# Altium schematic symbol library SCH_Lib.SchLib: 198 symbols
Pins are listed as number, name and electrical type; pins without a type are passive.

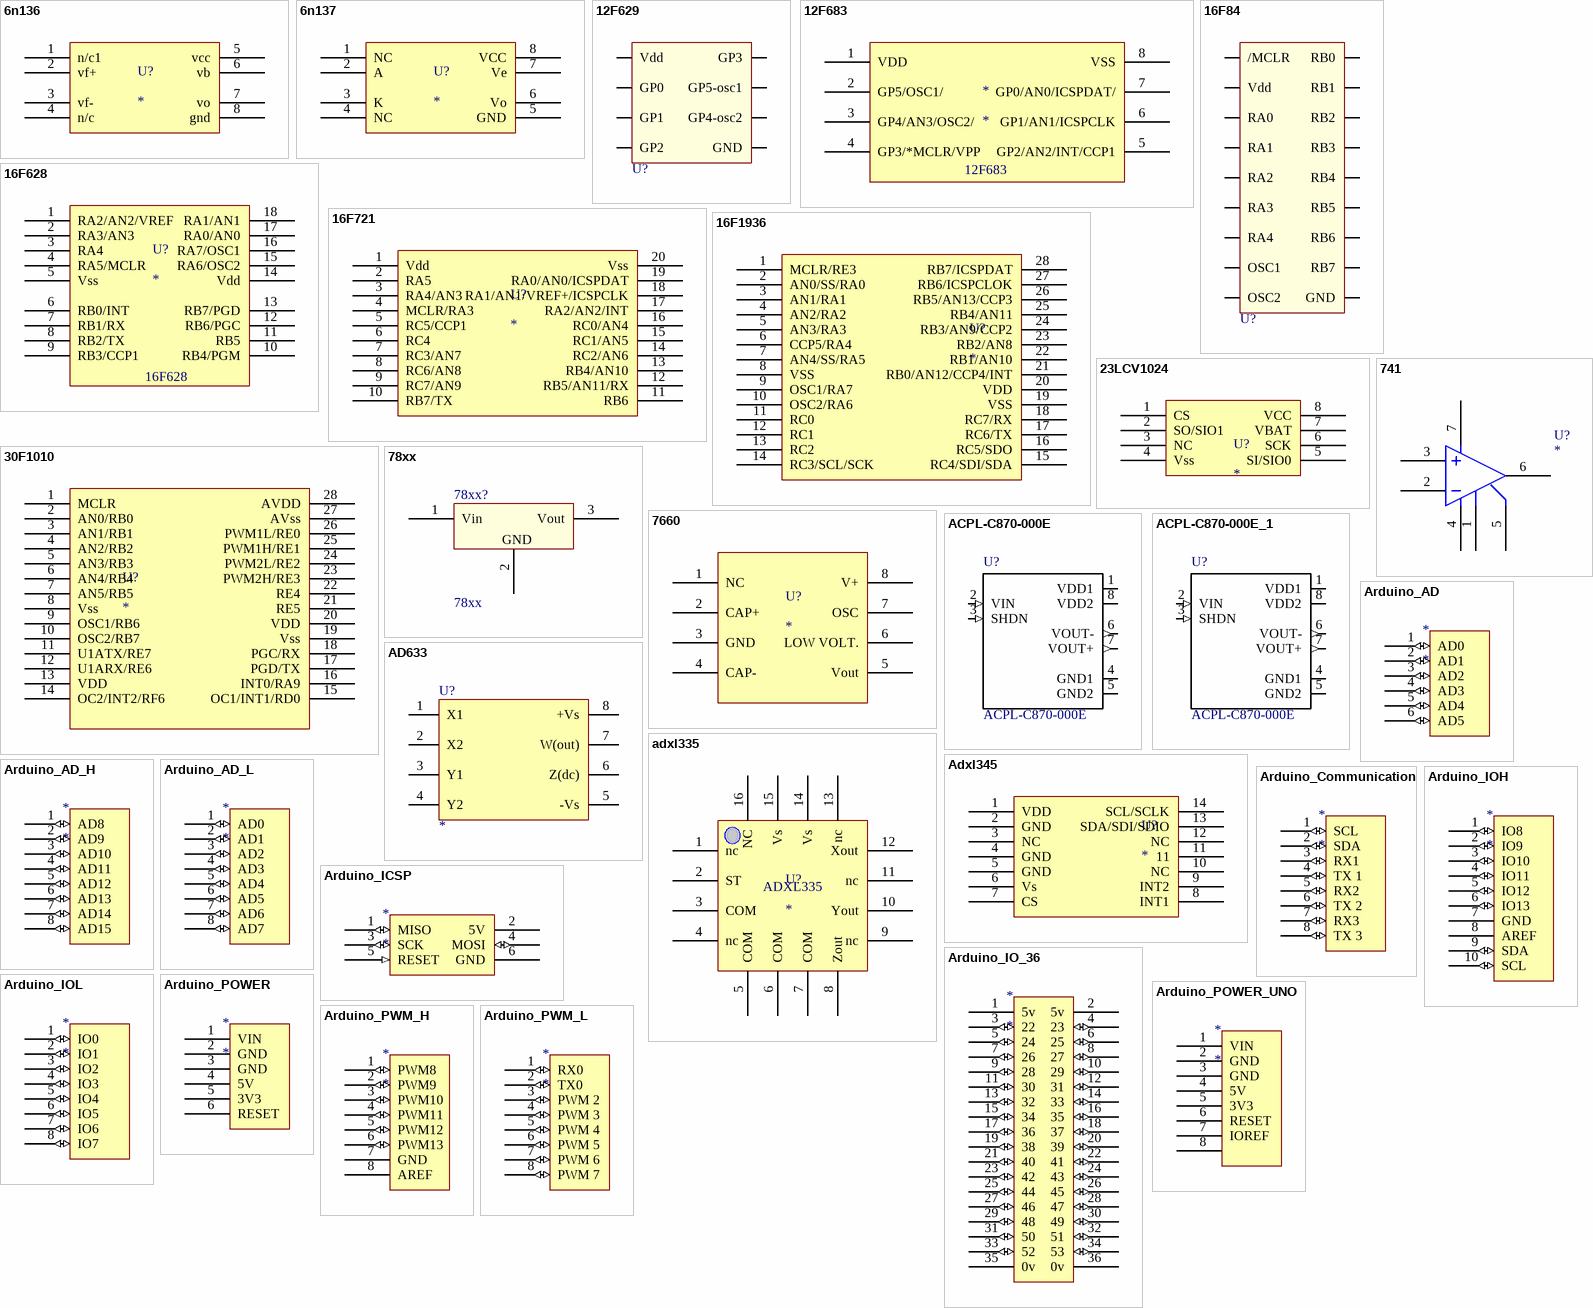
[diagram p0: symbols 6n136 to Arduino_PWM_L]

## 6n136
designator U?
footprint DIP8
pins: 1 n/c1, 2 vf+, 3 vf-, 4 n/c, 5 vcc, 6 vb, 7 vo, 8 gnd

## 6n137
designator U?
footprint DIP8
pins: 1 NC, 2 A, 3 K, 4 NC, 5 GND, 6 Vo, 7 Ve, 8 VCC

## 12F629
designator U?, comment Pic pequeño  (value not drawn)
footprint DIP8 (CI 8)
pins: 1 Vdd, 2 GP5-osc1, 3 GP4-osc2, 4 GP3, 5 GP2, 6 GP1, 7 GP0, 8 GND

## 12F683
designator *
footprint SOP8
footprint PIC12F683_SMD
pins: 1 VDD, 2 GP5/OSC1/, 3 GP4/AN3/OSC2/, 4 GP3/*MCLR/VPP, 5 GP2/AN2/INT/CCP1, 6 GP1/AN1/ICSPCLK, 7 GP0/AN0/ICSPDAT/, 8 VSS

## 16F84
designator U?  (value not drawn)
footprint DIP18 (circioto integrado 18 pates)
pins: 1 RA2, 2 RA3, 3 RA4, 4 /MCLR, 5 GND, 6 RB0, 7 RB1, 8 RB2, 9 RB3, 10 RB4, 11 RB5, 12 RB6, 13 RB7, 14 Vdd, 15 OSC2, 16 OSC1, 17 RA0, 18 RA1

## 16F628
designator U?
footprint 16f628
pins: 1 RA2/AN2/VREF, 2 RA3/AN3, 3 RA4, 4 RA5/MCLR, 5 Vss, 6 RB0/INT, 7 RB1/RX, 8 RB2/TX, 9 RB3/CCP1, 10 RB4/PGM, 11 RB5, 12 RB6/PGC, 13 RB7/PGD, 14 Vdd, 15 RA6/OSC2, 16 RA7/OSC1, 17 RA0/AN0, 18 RA1/AN1

## 16F721
designator U?
footprint SOIC20
pins: 1 Vdd, 2 RA5, 3 RA4/AN3, 4 MCLR/RA3, 5 RC5/CCP1, 6 RC4, 7 RC3/AN7, 8 RC6/AN8, 9 RC7/AN9, 10 RB7/TX, 11 RB6, 12 RB5/AN11/RX, 13 RB4/AN10, 14 RC2/AN6, 15 RC1/AN5, 16 RC0/AN4, 17 RA2/AN2/INT, 18 RA1/AN1/VREF+/ICSPCLK, 19 RA0/AN0/ICSPDAT, 20 Vss

## 16F1936
designator U?
footprint 16F1936_SS
pins: 1 MCLR/RE3, 2 AN0/SS/RA0, 3 AN1/RA1, 4 AN2/RA2, 5 AN3/RA3, 6 CCP5/RA4, 7 AN4/SS/RA5, 8 VSS, 9 OSC1/RA7, 10 OSC2/RA6, 11 RC0, 12 RC1, 13 RC2, 14 RC3/SCL/SCK, 15 RC4/SDI/SDA, 16 RC5/SDO, 17 RC6/TX, 18 RC7/RX, 19 VSS, 20 VDD, 21 RB0/AN12/CCP4/INT, 22 RB1/AN10, 23 RB2/AN8, 24 RB3/AN9/CCP2, 25 RB4/AN11, 26 RB5/AN13/CCP3, 27 RB6/ICSPCLOK, 28 RB7/ICSPDAT

## 23LCV1024
designator U?
footprint 23LCV1024_SS
pins: 1 CS, 2 SO/SIO1, 3 NC, 4 Vss, 5 SI/SIO0, 6 SCK, 7 VBAT, 8 VCC

## 30F1010
designator U?
footprint SMD-DIP28 - ANCHO
pins: 1 MCLR, 2 AN0/RB0, 3 AN1/RB1, 4 AN2/RB2, 5 AN3/RB3, 6 AN4/RB4, 7 AN5/RB5, 8 Vss, 9 OSC1/RB6, 10 OSC2/RB7, 11 U1ATX/RE7, 12 U1ARX/RE6, 13 VDD, 14 OC2/INT2/RF6, 15 OC1/INT1/RD0, 16 INT0/RA9, 17 PGD/TX, 18 PGC/RX, 19 Vss, 20 VDD, 21 RE5, 22 RE4, 23 PWM2H/RE3, 24 PWM2L/RE2, 25 PWM1H/RE1, 26 PWM1L/RE0, 27 AVss, 28 AVDD

## 78xx
designator 78xx?
Regulador Tensión Serie
footprint D2PAK (TO220-superficie)
footprint To220
pins: 1 Vin, 2 GND, 3 Vout

## 741
designator U?
AMPLIFICADOR OPERACIONAL
footprint DIP8
pins: 1, 2, 3, 4, 5, 6, 7

## 7660
designator U?
footprint 7660
pins: 1 NC, 2 CAP+, 3 GND, 4 CAP-, 5 Vout, 6 LOW VOLT., 7 OSC, 8 V+

## ACPL-C870-000E
designator U?
Isolation Amplifier [Broadcom] ACPL-C870-000E Isolation Amplifier; MF: Broadcom Limited; Package: SO-8 Broadcom; Digi-Key_Part_Number: 516-2578-5-ND; MP: ACPL-C870-000E; Digi-Key_Purchase_URL: https://www.digikey.dk/product-detail/en/broadcom-limited/ACPL-C870-000E/516-2578-5-ND/3523705?utm_source=snapeda&utm_medium=aggregator&utm_campaign=symbol; SnapEDA_Link: https://www.snapeda.com/parts/ACPL-C870-000E/Broadcom%20Limited/view-part/?ref=snap; Value: *
footprint SOIC127P1150X360-8N
pins: 1 VDD1 (power), 2 VIN (in), 3 SHDN (in), 4 GND1 (power), 5 GND2 (power), 6 VOUT- (out), 7 VOUT+ (out), 8 VDD2 (power)

## ACPL-C870-000E_1
designator U?, comment ACPL-C870-000E
Isolation Amplifier [Broadcom] ACPL-C870-000E Isolation Amplifier; MF: Broadcom Limited; Package: SO-8 Broadcom; Digi-Key_Part_Number: 516-2578-5-ND; MP: ACPL-C870-000E; Digi-Key_Purchase_URL: https://www.digikey.dk/product-detail/en/broadcom-limited/ACPL-C870-000E/516-2578-5-ND/3523705?utm_source=snapeda&utm_medium=aggregator&utm_campaign=symbol; SnapEDA_Link: https://www.snapeda.com/parts/ACPL-C870-000E/Broadcom%20Limited/view-part/?ref=snap; Value: *
footprint SOIC127P1150X360-8N
footprint SSOIC6 (Circuito de 6 patas SMD)
pins: 1 VDD1 (power), 2 VIN (in), 3 SHDN (in), 4 GND1 (power), 5 GND2 (power), 6 VOUT- (out), 7 VOUT+ (out), 8 VDD2 (power)

## AD633
designator U?
Multiplicador de cuatro cuadrantes
footprint DIP8
pins: 1 X1, 2 X2, 3 Y1, 4 Y2, 5 -Vs, 6 Z(dc), 7 W(out), 8 +Vs

## adxl335
designator U?
footprint ADXL335
pins: 1 nc, 2 ST, 3 COM, 4 nc, 5 COM, 6 COM, 7 COM, 8 Zout, 9 nc, 10 Yout, 11 nc, 12 Xout, 13 nc, 14 Vs, 15 Vs, 16 NC
text: ADXL335

## Adxl345
designator U?
Acelerometro digital low power
footprint 14LGA (ADXL345)
pins: 1 VDD, 2 GND, 3 NC, 4 GND, 5 GND, 6 Vs, 7 CS, 8 INT1, 9 INT2, 10 NC, 11, 12 NC, 13 SDA/SDI/SDIO, 14 SCL/SCLK

## Arduino_AD
designator *
footprint Header 6x1 8.5mm (Stackable 6 pin header)
pins: 1 AD0 (io), 2 AD1 (io), 3 AD2 (io), 4 AD3 (io), 5 AD4 (io), 6 AD5 (io)

## Arduino_AD_H
designator *
footprint Header 8x1 8.5mm (Stackable 8 pin header)
pins: 1 AD8 (io), 2 AD9 (io), 3 AD10 (io), 4 AD11 (io), 5 AD12 (io), 6 AD13 (io), 7 AD14 (io), 8 AD15 (io)

## Arduino_AD_L
designator *
footprint Header 8x1 8.5mm (Stackable 8 pin header)
pins: 1 AD0 (io), 2 AD1 (io), 3 AD2 (io), 4 AD3 (io), 5 AD4 (io), 6 AD5 (io), 7 AD6 (io), 8 AD7 (io)

## Arduino_Communication
designator *
footprint Header 8x1 8.5mm (Stackable 8 pin header)
pins: 1 SCL (io), 2 SDA (io), 3 RX1 (io), 4 TX 1 (io), 5 RX2 (io), 6 TX 2 (io), 7 RX3 (io), 8 TX 3 (io)

## Arduino_ICSP
designator *
footprint ICSP
pins: 1 MISO (io), 2 5V (power), 3 SCK (io), 4 MOSI (io), 5 RESET (in), 6 GND (power)

## Arduino_IO_36
designator *
footprint HEADER 36X 8MM (Stackable 10 pin header)
pins: 1 5v (power), 2 5v (power), 3 22 (io) "Digital 22", 4 23 (io) "Digital 23", 5 24 (io) "Digital 24", 6 25 (io) "Digital 25", 7 26 (io) "Digital 26", 8 27 (io) "Digital 27", 9 28 (io) "Digital 28", 10 29 (io) "Digital 29", 11 30 (io) "Digital 30", 12 31 (io) "Digital 31", 13 32 (io) "Digital 32", 14 33 (io) "Digital 33", 15 34 (io) "Digital 34", 16 35 (io) "Digital 35", 17 36 (io) "Digital 36", 18 37 (io) "Digital 37", 19 38 (io) "Digital 38", 20 39 (io) "Digital 39", 21 40 (io) "Digital 40", 22 41 (io) "Digital 41", 23 42 (io) "Digital 42", 24 43 (io) "Digital 43", 25 44 (io) "Digital 44", 26 45 (io) "Digital 45", 27 46 (io) "Digital 46", 28 47 (io) "Digital 47", 29 48 (io) "Digital 48", 30 49 (io) "Digital 49", 31 50 (io) "Digital 50", 32 51 (io) "Digital 51", 33 52 (io) "Digital 52", 34 53 (io) "Digital 53", 35 0v (power), 36 0v (power)

## Arduino_IOH
designator *
footprint Header 10x1 8.5mm (Stackable 10 pin header)
pins: 1 IO8 (io), 2 IO9 (io), 3 IO10 (io), 4 IO11 (io), 5 IO12 (io), 6 IO13 (io), 7 GND (power), 8 AREF, 9 SDA (io), 10 SCL (io)

## Arduino_IOL
designator *
footprint Header 8x1 8.5mm (Stackable 8 pin header)
pins: 1 IO0 (io), 2 IO1 (io), 3 IO2 (io), 4 IO3 (io), 5 IO4 (io), 6 IO5 (io), 7 IO6 (io), 8 IO7 (io)

## Arduino_POWER
designator *
footprint Header 6x1 8.5mm (Stackable 6 pin header)
pins: 1 VIN (power), 2 GND (power), 3 GND (power), 4 5V (power), 5 3V3 (power), 6 RESET

## Arduino_POWER_UNO
designator *
footprint Header 8x1 8.5mm (Stackable 8 pin header)
pins: 1 VIN (power), 2 GND (power), 3 GND (power), 4 5V (power), 5 3V3 (power), 6 RESET, 7 IOREF (power), 8

## Arduino_PWM_H
designator *
footprint Header 8x1 8.5mm (Stackable 8 pin header)
pins: 1 PWM8 (io) "PWM 8", 2 PWM9 (io) "PWM 9", 3 PWM10 (io) "PWM 10", 4 PWM11 (io) "PWM 11", 5 PWM12 (io) "PWM 12", 6 PWM13 (io) "PWM 13", 7 GND (power), 8 AREF

## Arduino_PWM_L
designator *
footprint Header 8x1 8.5mm (Stackable 8 pin header)
pins: 1 RX0 (io) "PWM 0 & RX0", 2 TX0 (io) "PWM 1 & TX0", 3 PWM 2 (io), 4 PWM 3 (io), 5 PWM 4 (io), 6 PWM 5 (io), 7 PWM 6 (io), 8 PWM 7 (io)

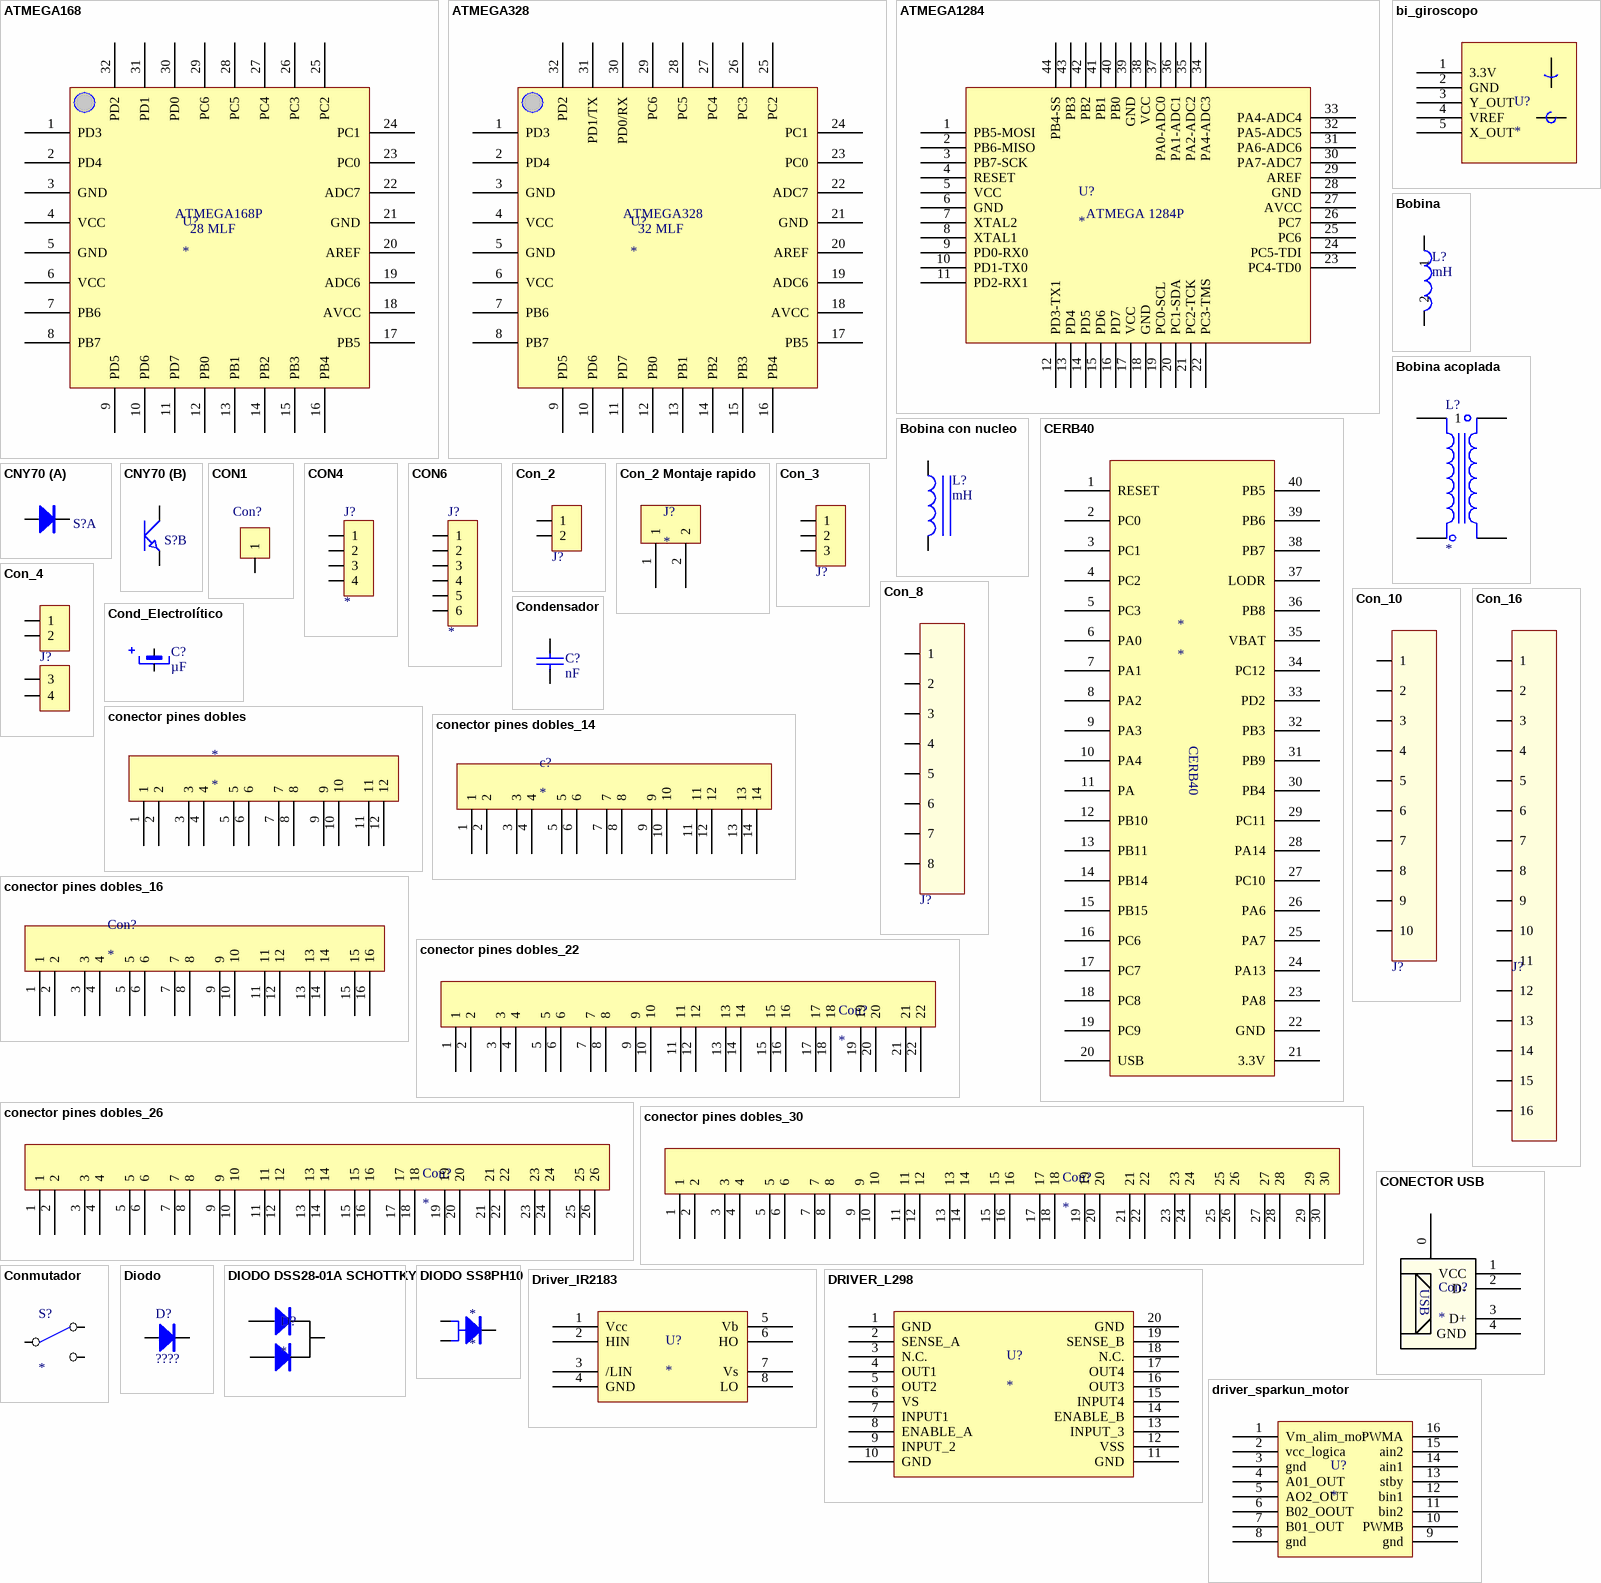
[diagram p1: symbols ATMEGA168 to driver_sparkun_motor]

## ATMEGA168
designator U?
footprint 32A_M (32-Pin Thin Quad Flat Pack 0.8 mm Pitch, IPC Low Density)
pins: 1 PD3, 2 PD4, 3 GND, 4 VCC, 5 GND, 6 VCC, 7 PB6, 8 PB7, 9 PD5, 10 PD6, 11 PD7, 12 PB0, 13 PB1, 14 PB2, 15 PB3, 16 PB4, 17 PB5, 18 AVCC, 19 ADC6, 20 AREF, 21 GND, 22 ADC7, 23 PC0, 24 PC1, 25 PC2, 26 PC3, 27 PC4, 28 PC5, 29 PC6, 30 PD0, 31 PD1, 32 PD2
text: ATMEGA168P; 28 MLF

## ATMEGA328
designator U?
footprint 32A_M (32-Pin Thin Quad Flat Pack 0.8 mm Pitch, IPC Low Density)
pins: 1 PD3, 2 PD4, 3 GND, 4 VCC, 5 GND, 6 VCC, 7 PB6, 8 PB7, 9 PD5, 10 PD6, 11 PD7, 12 PB0, 13 PB1, 14 PB2, 15 PB3, 16 PB4, 17 PB5, 18 AVCC, 19 ADC6, 20 AREF, 21 GND, 22 ADC7, 23 PC0, 24 PC1, 25 PC2, 26 PC3, 27 PC4, 28 PC5, 29 PC6, 30 PD0/RX, 31 PD1/TX, 32 PD2
text: 32 MLF

## ATMEGA1284
designator U?
footprint TQFP 44
pins: 1 PB5-MOSI, 2 PB6-MISO, 3 PB7-SCK, 4 RESET, 5 VCC, 6 GND, 7 XTAL2, 8 XTAL1, 9 PD0-RX0, 10 PD1-TX0, 11 PD2-RX1, 12 PD3-TX1, 13 PD4, 14 PD5, 15 PD6, 16 PD7, 17 VCC, 18 GND, 19 PC0-SCL, 20 PC1-SDA, 21 PC2-TCK, 22 PC3-TMS, 23 PC4-TD0, 24 PC5-TDI, 25 PC6, 26 PC7, 27 AVCC, 28 GND, 29 AREF, 30 PA7-ADC7, 31 PA6-ADC6, 32 PA5-ADC5, 33 PA4-ADC4, 34 PA4-ADC3, 35 PA2-ADC2, 36 PA1-ADC1, 37 PA0-ADC0, 38 VCC, 39 GND, 40 PB0, 41 PB1, 42 PB2, 43 PB3, 44 PB4-SS
text: ATMEGA 1284P

## bi_giroscopo
designator U?
footprint bi_giroscopo
pins: 1 3.3V, 2 GND, 3 Y_OUT, 4 VREF, 5 X_OUT

## Bobina
designator L?, comment mH
footprint Bobina (154C)
footprint E20-Seebeck
pins: 1, 2

## Bobina acoplada
designator L?
footprint E30 - Acoplado
footprint ETD29- Acoplado
footprint E20- ACOPLADA
footprint ETD44 - ETD29
pins: 1, 2, 3, 4

## Bobina con nucleo
designator L?, comment mH
footprint Bobina_E20
footprint BOBINA E25/20
pins: 1, 10

## CERB40
designator *
footprint DIP40
pins: 1 RESET, 2 PC0, 3 PC1, 4 PC2, 5 PC3, 6 PA0, 7 PA1, 8 PA2, 9 PA3, 10 PA4, 11 PA, 12 PB10, 13 PB11, 14 PB14, 15 PB15, 16 PC6, 17 PC7, 18 PC8, 19 PC9, 20 USB, 21 3.3V, 22 GND, 23 PA8, 24 PA13, 25 PA7, 26 PA6, 27 PC10, 28 PA14, 29 PC11, 30 PB4, 31 PB9, 32 PB3, 33 PD2, 34 PC12, 35 VBAT, 36 PB8, 37 LODR, 38 PB7, 39 PB6, 40 PB5

## CNY70
designator S?  (value not drawn)
footprint CNY70 (sensor negro)
part A pins: 1 A, 2 K
part B pins: 3 E, 4 C

## CON1
designator Con?  (value not drawn)
footprint Con_1_Via
pins: 1

## CON4
designator J?
CON4
footprint REG4
footprint Clema_4:100milis
pins: 1, 2, 3, 4

## CON6
designator J?
CONECTOR 6 PINES
footprint Clema_6_vias
footprint Clema_6_100milis
pins: 1, 2, 3, 4, 5, 6

## Con_2
designator J?, comment Cleva 2 vias  (value not drawn)
footprint Clema_2_vias (Conector 2 vias)
footprint Clema_2_vias_chico
pins: 1, 2

## Con_2 Montaje rapido
designator J?
footprint CON_2_Montaje Rapido
pins: 1, 2

## Con_3
designator J?, comment Cleva 2 vias  (value not drawn)
footprint Clema_3_Vias_chico
footprint Clema_3_vias (Conector 3 vias)
footprint con_3_100milis
footprint Con_pot_3pin
pins: 1, 2, 3

## Con_4
designator J?, comment Cleva 2 vias  (value not drawn)
footprint Clema_4_vias_cuadrado (Conector 2 vias)
footprint Clema_2_vias_chico
pins: 1, 2, 3, 4

## Con_8
designator J?  (value not drawn)
Clema 8 vias
footprint Clema_8_vias (Conector 8 vias)
pins: 1, 2, 3, 4, 5, 6, 7, 8

## Con_10
designator J?  (value not drawn)
footprint Clema_10_vias
pins: 1, 2, 3, 4, 5, 6, 7, 8, 9, 10

## Con_16
designator J?  (value not drawn)
footprint Clema_16_vias
pins: 1, 2, 3, 4, 5, 6, 7, 8, 9, 10, 11, 12, 13, 14, 15, 16

## Cond_Electrolítico
designator C?, comment µF
Condensador Aluminio con polaridad
footprint CE1p2p (CE 1p entre pines 2p circunferencia)
footprint CE1.5p3.3p (CE 1.5p entre pines 3.3p de circunferencia)
footprint Electrolitico 400milis (100uF 400v)
footprint CE 300milis
footprint CE 200milis
pins: 1, 2

## Condensador
designator C?, comment nF
Condensador
footprint C (Condensador 1p)
footprint 1206 (SMD R&C)
footprint Condensador_MKP_600milis (10nF 1600v)
footprint Condensador_MKP_900milis (10nF 2000v)
footprint Condensador_MKP_1100milis (2u2 22u 1u)
footprint C_2917 (SMD R&C)
pins: 1, 2

## conector pines dobles
designator *
footprint conector pin_doble
pins: 1, 2, 3, 4, 5, 6, 7, 8, 9, 10, 11, 12

## conector pines dobles_14
designator c?
footprint conector pin_doble_14
pins: 1, 2, 3, 4, 5, 6, 7, 8, 9, 10, 11, 12, 13, 14

## conector pines dobles_16
designator Con?
footprint conector pin_doble_16
pins: 1, 2, 3, 4, 5, 6, 7, 8, 9, 10, 11, 12, 13, 14, 15, 16

## conector pines dobles_22
designator Con?
footprint conector pin_doble_22
pins: 1, 2, 3, 4, 5, 6, 7, 8, 9, 10, 11, 12, 13, 14, 15, 16, 17, 18, 19, 20, 21, 22

## conector pines dobles_26
designator Con?
footprint conector pin_doble_26
pins: 1, 2, 3, 4, 5, 6, 7, 8, 9, 10, 11, 12, 13, 14, 15, 16, 17, 18, 19, 20, 21, 22, 23, 24, 25, 26

## conector pines dobles_30
designator Con?
footprint conector pin_doble_30
pins: 1, 2, 3, 4, 5, 6, 7, 8, 9, 10, 11, 12, 13, 14, 15, 16, 17, 18, 19, 20, 21, 22, 23, 24, 25, 26, 27, 28, 29, 30

## CONECTOR USB
designator Con?
footprint usb_mini
footprint USB_B_pcb (Puerto USB tipo B parar placas)
pins: 0 SHIELD, 1 VCC, 2 D-, 3 D+, 4 GND
text: USB

## Conmutador
designator S?
2 vias
pins: 1 COMMON, 2 NC, 3 NA

## Diodo
designator D?, comment ????
Diodo
footprint Diodo
footprint D-Pak
footprint D2PAK (TO220-superficie)
footprint 1206 - diodo (SMD R&C)
footprint SMA_DIODO (SMD R&C)
footprint SMC_DIODO (SMD R&C)
pins: A, K

## DIODO DSS28-01A SCHOTTKY
designator D?
footprint To220
pins: 1, 2, 3

## DIODO SS8PH10
designator *
footprint SS8PH10
pins: 1, 2, 3

## Driver_IR2183
designator U?
footprint Driver_IR2183
pins: 1 Vcc, 2 HIN, 3 /LIN, 4 GND, 5 Vb, 6 HO, 7 Vs, 8 LO

## DRIVER_L298
designator U?
footprint DRIVER_L298_SMD
pins: 1 GND, 2 SENSE_A, 3 N.C., 4 OUT1, 5 OUT2, 6 VS, 7 INPUT1, 8 ENABLE_A, 9 INPUT_2, 10 GND, 11 GND, 12 VSS, 13 INPUT_3, 14 ENABLE_B, 15 INPUT4, 16 OUT3, 17 OUT4, 18 N.C., 19 SENSE_B, 20 GND

## driver_sparkun_motor
designator U?
footprint DRIVER_MOTOR_SPARKUN
pins: 1 Vm_alim_mot, 2 vcc_logica, 3 gnd, 4 A01_OUT, 5 AO2_OUT, 6 B02_OOUT, 7 B01_OUT, 8 gnd, 9 gnd, 10 PWMB, 11 bin2, 12 bin1, 13 stby, 14 ain1, 15 ain2, 16 PWMA

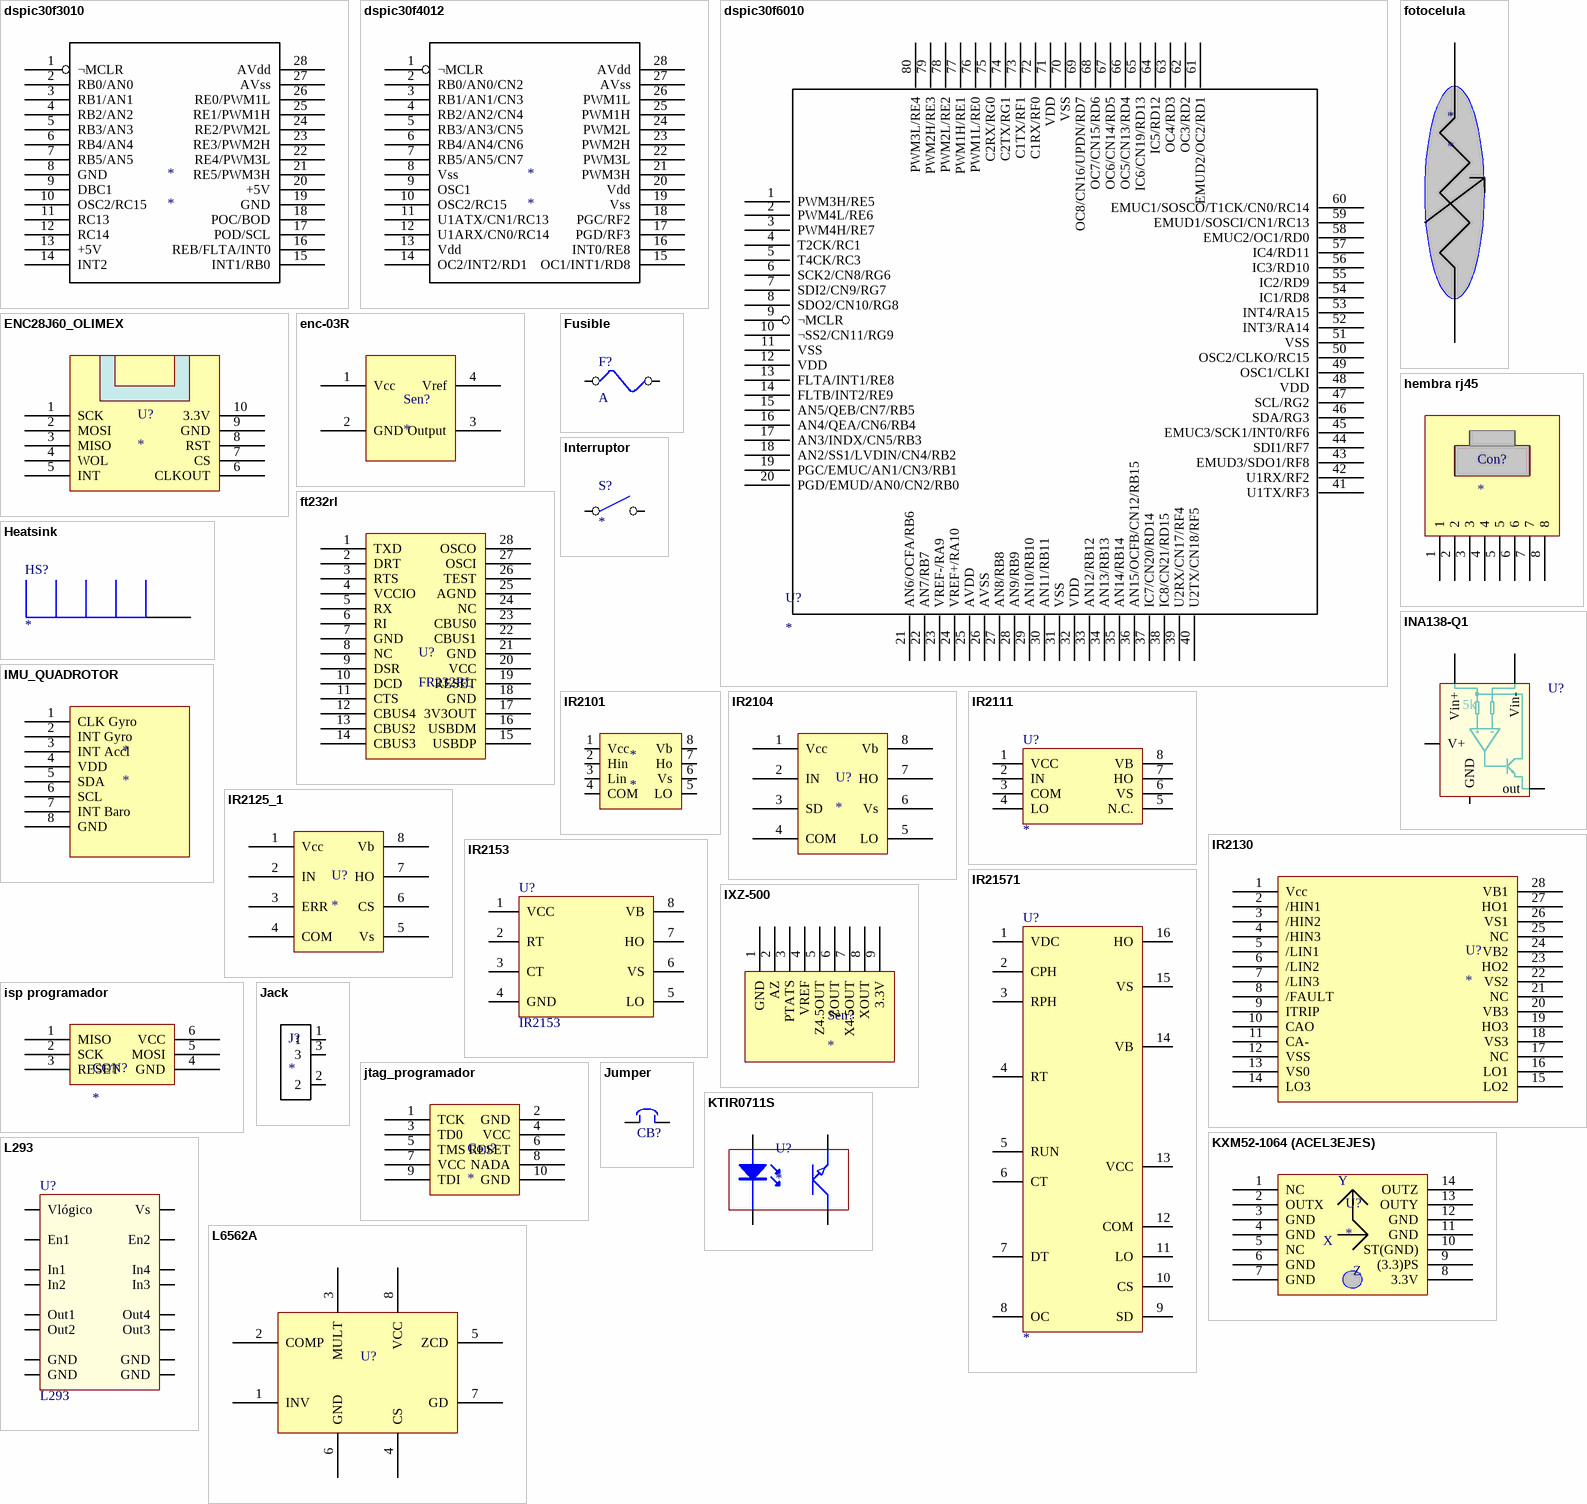
[diagram p2: symbols dspic30f3010 to L6562A]

## dspic30f3010
designator *
footprint DSPIC30F4012
pins: 1 ¬MCLR, 2 RB0/AN0, 3 RB1/AN1, 4 RB2/AN2, 5 RB3/AN3, 6 RB4/AN4, 7 RB5/AN5, 8 GND, 9 DBC1, 10 OSC2/RC15, 11 RC13, 12 RC14, 13 +5V, 14 INT2, 15 INT1/RB0, 16 REB/FLTA/INT0, 17 POD/SCL, 18 POC/BOD, 19 GND, 20 +5V, 21 RE5/PWM3H, 22 RE4/PWM3L, 23 RE3/PWM2H, 24 RE2/PWM2L, 25 RE1/PWM1H, 26 RE0/PWM1L, 27 AVss, 28 AVdd

## dspic30f4012
designator *
footprint DSPIC30F4012
pins: 1 ¬MCLR, 2 RB0/AN0/CN2, 3 RB1/AN1/CN3, 4 RB2/AN2/CN4, 5 RB3/AN3/CN5, 6 RB4/AN4/CN6, 7 RB5/AN5/CN7, 8 Vss, 9 OSC1, 10 OSC2/RC15, 11 U1ATX/CN1/RC13, 12 U1ARX/CN0/RC14, 13 Vdd, 14 OC2/INT2/RD1, 15 OC1/INT1/RD8, 16 INT0/RE8, 17 PGD/RF3, 18 PGC/RF2, 19 Vss, 20 Vdd, 21 PWM3H, 22 PWM3L, 23 PWM2H, 24 PWM2L, 25 PWM1H, 26 PWM1L, 27 AVss, 28 AVdd

## dspic30f6010
designator U?
footprint dspic30f6010 (pines 100mil longitud)
pins: 1 PWM3H/RE5, 2 PWM4L/RE6, 3 PWM4H/RE7, 4 T2CK/RC1, 5 T4CK/RC3, 6 SCK2/CN8/RG6, 7 SDI2/CN9/RG7, 8 SDO2/CN10/RG8, 9 ¬MCLR, 10 ¬SS2/CN11/RG9, 11 VSS, 12 VDD, 13 FLTA/INT1/RE8, 14 FLTB/INT2/RE9, 15 AN5/QEB/CN7/RB5, 16 AN4/QEA/CN6/RB4, 17 AN3/INDX/CN5/RB3, 18 AN2/SS1/LVDIN/CN4/RB2, 19 PGC/EMUC/AN1/CN3/RB1, 20 PGD/EMUD/AN0/CN2/RB0, 21 AN6/OCFA/RB6, 22 AN7/RB7, 23 VREF-/RA9, 24 VREF+/RA10, 25 AVDD, 26 AVSS, 27 AN8/RB8, 28 AN9/RB9, 29 AN10/RB10, 30 AN11/RB11, 31 VSS, 32 VDD, 33 AN12/RB12, 34 AN13/RB13, 35 AN14/RB14, 36 AN15/OCFB/CN12/RB15, 37 IC7/CN20/RD14, 38 IC8/CN21/RD15, 39 U2RX/CN17/RF4, 40 U2TX/CN18/RF5, 41 U1TX/RF3, 42 U1RX/RF2, 43 EMUD3/SDO1/RF8, 44 SDI1/RF7, 45 EMUC3/SCK1/INT0/RF6, 46 SDA/RG3, 47 SCL/RG2, 48 VDD, 49 OSC1/CLKI, 50 OSC2/CLKO/RC15, 51 VSS, 52 INT3/RA14, 53 INT4/RA15, 54 IC1/RD8, 55 IC2/RD9, 56 IC3/RD10, 57 IC4/RD11, 58 EMUC2/OC1/RD0, 59 EMUD1/SOSCI/CN1/RC13, 60 EMUC1/SOSCO/T1CK/CN0/RC14, 61 EMUD2/OC2/RD1, 62 OC3/RD2, 63 OC4/RD3, 64 IC5/RD12, 65 IC6/CN19/RD13, 66 OC5/CN13/RD4, 67 OC6/CN14/RD5, 68 OC7/CN15/RD6, 69 OC8/CN16/UPDN/RD7, 70 VSS, 71 VDD, 72 C1RX/RF0, 73 C1TX/RF1, 74 C2TX/RG1, 75 C2RX/RG0, 76 PWM1L/RE0, 77 PWM1H/RE1, 78 PWM2L/RE2, 79 PWM2H/RE3, 80 PWM3L/RE4

## ENC28J60_OLIMEX
designator U?
footprint ENC28J60_OLIMEX
pins: 1 SCK, 2 MOSI, 3 MISO, 4 WOL, 5 INT, 6 CLKOUT, 7 CS, 8 RST, 9 GND, 10 3.3V

## enc-03R
designator Sen?
footprint ENC-03
pins: 1 Vcc, 2 GND, 3 Output, 4 Vref

## fotocelula
designator *
footprint fotocelula
pins: 1, 2

## ft232rl
designator U?, comment FR232RL
footprint SOP28_FT232RL
pins: 1 TXD, 2 DRT, 3 RTS, 4 VCCIO, 5 RX, 6 RI, 7 GND, 8 NC, 9 DSR, 10 DCD, 11 CTS, 12 CBUS4, 13 CBUS2, 14 CBUS3, 15 USBDP, 16 USBDM, 17 3V3OUT, 18 GND, 19 RESET, 20 VCC, 21 GND, 22 CBUS1, 23 CBUS0, 24 NC, 25 AGND, 26 TEST, 27 OSCI, 28 OSCO

## Fusible
designator F?, comment A
footprint Porta_Fusibles
pins: 1, 2

## Heatsink
designator HS?
footprint DISIPADOR
footprint Heatsink60x60 (Holes 36mm appart)
pins: 1

## hembra rj45
designator Con?
footprint hembra_rj45
pins: 1, 2, 3, 4, 5, 6, 7, 8

## IMU_QUADROTOR
designator *
footprint imu_quadrotor (U?)
pins: 1 CLK Gyro, 2 INT Gyro, 3 INT Accl, 4 VDD, 5 SDA, 6 SCL, 7 INT Baro, 8 GND

## INA138-Q1
designator U?  (value not drawn)
Sensor Corriente
footprint SOT23 - 5 pates
pins: 1 out, 2 GND, 3 Vin+, 4 Vin-, 5 V+
text: 5k

## Interruptor
designator S?
pins: 1 COMMON, 2 NO

## IR2101
designator *
footprint SOIC8
pins: 1 Vcc, 2 Hin, 3 Lin, 4 COM, 5 LO, 6 Vs, 7 Ho, 8 Vb

## IR2104
designator U?
footprint SOIC8
pins: 1 Vcc, 2 IN, 3 SD, 4 COM, 5 LO, 6 Vs, 7 HO, 8 Vb

## IR2111
designator U?
IR2111
footprint DIP8
footprint SOIC8
pins: 1 VCC, 2 IN, 3 COM, 4 LO, 5 N.C., 6 VS, 7 HO, 8 VB

## IR2125_1
designator U?
footprint DIP8 (DIP; 8 Leads; Row Spacing 7.62 mm; Pitch 2.54 mm)
pins: 1 Vcc, 2 IN, 3 ERR, 4 COM, 5 Vs, 6 CS, 7 HO, 8 Vb

## IR2130
designator U?
footprint IR2130
pins: 1 Vcc, 2 /HIN1, 3 /HIN2, 4 /HIN3, 5 /LIN1, 6 /LIN2, 7 /LIN3, 8 /FAULT, 9 ITRIP, 10 CAO, 11 CA-, 12 VSS, 13 VS0, 14 LO3, 15 LO2, 16 LO1, 17 NC, 18 VS3, 19 HO3, 20 VB3, 21 NC, 22 VS2, 23 HO2, 24 VB2, 25 NC, 26 VS1, 27 HO1, 28 VB1

## IR2153
designator U?
footprint DIP8 (Model Description)
pins: 1 VCC, 2 RT, 3 CT, 4 GND, 5 LO, 6 VS, 7 HO, 8 VB

## IR21571
designator U?
IC Control Balasto
footprint DIP16
pins: 1 VDC, 2 CPH, 3 RPH, 4 RT, 5 RUN, 6 CT, 7 DT, 8 OC, 9 SD, 10 CS, 11 LO, 12 COM, 13 VCC, 14 VB, 15 VS, 16 HO

## isp programador
designator CON?
footprint ISP_PROGRAMADOR
pins: 1 MISO, 2 SCK, 3 RESET, 4 GND, 5 MOSI, 6 VCC

## IXZ-500
designator Sen?
footprint IXZ-500
pins: 1 GND, 2 AZ, 3 PTATS, 4 VREF, 5 Z4.5OUT, 6 ZOUT, 7 X4.5OUT, 8 XOUT, 9 3.3V

## Jack
designator J?
footprint Jack
pins: 1, 2, 3

## jtag_programador
designator Con?
footprint JTAG
pins: 1 TCK, 2 GND, 3 TD0, 4 VCC, 5 TMS, 6 RESET, 7 VCC, 8 NADA, 9 TDI, 10 GND

## Jumper
designator CB?  (value not drawn)
footprint Jumper
pins: 1, 2

## KTIR0711S
designator U?
footprint KTIR0711S
pins: 1, 2, 3, 4

## KXM52-1064 (ACEL3EJES)
designator U?
pins: 1 NC, 2 OUTX, 3 GND, 4 GND, 5 NC, 6 GND, 7 GND, 8 3.3V, 9 (3.3)PS, 10 ST(GND), 11 GND, 12 GND, 13 OUTY, 14 OUTZ
text: Y; X; Z

## L293
designator U?
Puente H
footprint DIP16
pins: 1 En1, 2 In1, 3 Out1, 4 GND, 5 GND, 6 Out2, 7 In2, 8 Vs "Los 15v", 9 En2, 10 In3, 11 Out3, 12 GND, 13 GND, 14 Out4, 15 In4, 16 Vlógico "Los 5v"

## L6562A
designator U?  (value not drawn)
footprint DIP8 (CI 8)
footprint SOP8
pins: 1 INV, 2 COMP, 3 MULT, 4 CS, 5 ZCD, 6 GND, 7 GD, 8 VCC

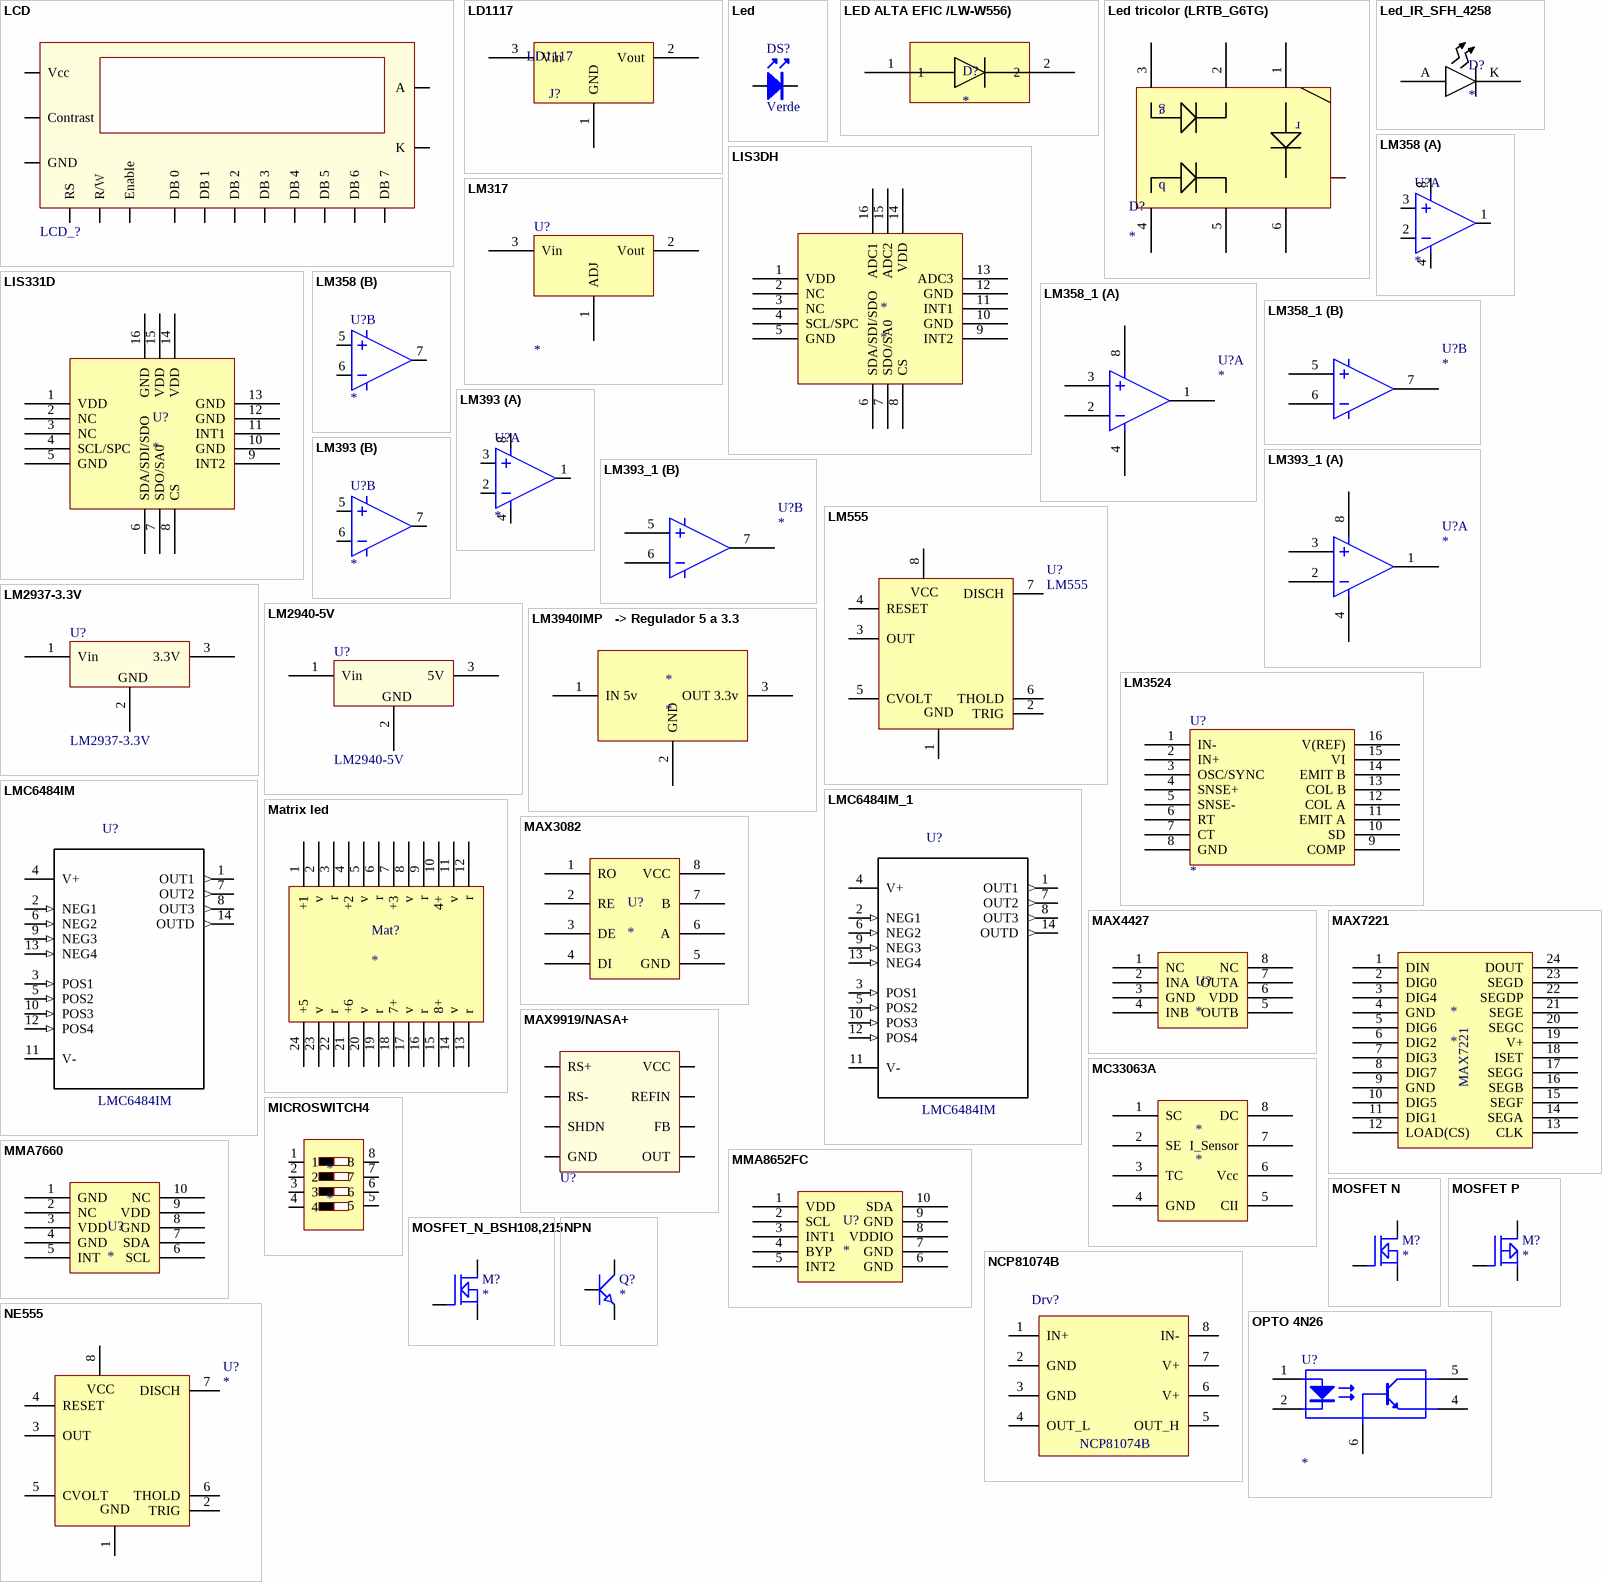
[diagram p3: symbols LCD to OPTO 4N26]

## LCD
designator LCD_?, comment 16x2BL  (value not drawn)
footprint LCD (16x2)
footprint LCD - 20x4 (20x4)
pins: 1 GND, 2 Vcc, 3 Contrast, 4 RS, 5 R/W, 6 Enable, 7 DB 0, 8 DB 1, 9 DB 2, 10 DB 3, 11 DB 4, 12 DB 5, 13 DB 6, 14 DB 7, 15 A, 16 K

## LD1117
designator J?
Linear voltage regulator
footprint Clema_3_Vias_chico
footprint Clema_3_vias (Conector 3 vias)
footprint con_3_100milis
footprint Con_pot_3pin
pins: 1 GND, 2 Vout, 3 Vin

## Led
designator DS?, comment Verde
footprint Led 3mm (no está modificado)
footprint Led insercion 5mm (Led de insercion)
footprint LED SMD (SMD R&C)
footprint LED_BICARA_BOLA
pins: A, K

## LED ALTA EFIC /LW-W556)
designator D?
footprint led_alta efic
pins: 1, 2

## Led tricolor (LRTB_G6TG)
designator D?
footprint Led tricolor LRTB
pins: 1, 2, 3, 4, 5, 6
text: g; r; b

## Led_IR_SFH_4258
designator D?
footprint LED_SFH_4258
pins: A 0, K 1

## LIS3DH
designator *
footprint LGA16_LIS331D
pins: 1 VDD, 2 NC, 3 NC, 4 SCL/SPC, 5 GND, 6 SDA/SDI/SDO, 7 SDO/SA0, 8 CS, 9 INT2, 10 GND, 11 INT1, 12 GND, 13 ADC3, 14 VDD, 15 ADC2, 16 ADC1

## LIS331D
designator U?
ACCELEROMETER LGA16
footprint LGA16_LIS331D
pins: 1 VDD, 2 NC, 3 NC, 4 SCL/SPC, 5 GND, 6 SDA/SDI/SDO, 7 SDO/SA0, 8 CS, 9 INT2, 10 GND, 11 INT1, 12 GND, 13 GND, 14 VDD, 15 VDD, 16 GND

## LM317
designator U?
footprint D2PAK (TO220-superficie)
footprint To220
pins: 1 ADJ, 2 Vout, 3 Vin

## LM358
designator U?
Comparador 393
footprint SOIC8 (CI8_smd)
footprint DIP8 (CI 8)
part A pins: 1, 2, 3, 4, 8
part B pins: 5, 6, 7

## LM358_1
designator U?
Operacional
footprint DIP8
footprint SO8
part A pins: 1, 2, 3, 4 GND, 8 VCC
part B pins: 5, 6, 7

## LM393
designator U?
Comparador 393
footprint SOIC8 (CI8_smd)
footprint DIP8 (CI 8)
part A pins: 1, 2, 3, 4, 8
part B pins: 5, 6, 7

## LM393_1
designator U?
Comparador 393
footprint DIP8
footprint SO8
part A pins: 1, 2, 3, 4, 8
part B pins: 5, 6, 7

## LM555
designator U?
footprint DIP8
footprint SOIC8 (CI8_smd)
pins: 1 GND, 2 TRIG, 3 OUT, 4 RESET, 5 CVOLT, 6 THOLD, 7 DISCH, 8 VCC

## LM2937-3.3V
designator U?
LDO 5V
footprint SOT-223 (SOT-223/SC-73; 4 Leads; Body 6.7 x 7.3 mm, inc. leads (LxW max))
pins: 1 Vin, 2 GND, 3 3.3V

## LM2940-5V
designator U?
LDO 5V
footprint SOT-223 (SOT-223/SC-73; 4 Leads; Body 6.7 x 7.3 mm, inc. leads (LxW max))
pins: 1 Vin, 2 GND, 3 5V

## LM3524
designator U?
IC Power supply
footprint DIP16
pins: 1 IN-, 2 IN+, 3 OSC/SYNC, 4 SNSE+, 5 SNSE-, 6 RT, 7 CT, 8 GND, 9 COMP, 10 SD, 11 EMIT A, 12 COL A, 13 COL B, 14 EMIT B, 15 VI, 16 V(REF)

## LM3940IMP   -> Regulador 5 a 3.3
designator *
Regulador 5 a 3.3v
footprint SOT-223 (SOT-223/SC-73; 4 Leads; Body 6.7 x 7.3 mm, inc. leads (LxW max))
pins: 1 IN 5v, 2 GND, 3 OUT 3.3v

## LMC6484IM
designator U?
14 pin CMOS Quad Rail to Rail Input and Output Operational Amplifier 55 per tube; MF: Texas Instruments; Price: None; MP: LMC6484IM; SnapEDA_Link: https://www.snapeda.com/parts/LMC6484IM/Texas%20Instruments/view-part/?ref=snap; Availability: Unavailable; Package: SOIC-14 Texas Instruments; Value: *
footprint SOIC127P600X175-14N
pins: 1 OUT1 (out), 2 NEG1 (in), 3 POS1 (in), 4 V+ (power), 5 POS2 (in), 6 NEG2 (in), 7 OUT2 (out), 8 OUT3 (out), 9 NEG3 (in), 10 POS3 (in), 11 V- (power), 12 POS4 (in), 13 NEG4 (in), 14 OUTD (out)

## LMC6484IM_1
designator U?, comment LMC6484IM
14 pin CMOS Quad Rail to Rail Input and Output Operational Amplifier 55 per tube; MF: Texas Instruments; Price: None; MP: LMC6484IM; SnapEDA_Link: https://www.snapeda.com/parts/LMC6484IM/Texas%20Instruments/view-part/?ref=snap; Availability: Unavailable; Package: SOIC-14 Texas Instruments; Value: *
footprint SOIC127P600X175-14N
footprint SOIC_14
pins: 1 OUT1 (out), 2 NEG1 (in), 3 POS1 (in), 4 V+ (power), 5 POS2 (in), 6 NEG2 (in), 7 OUT2 (out), 8 OUT3 (out), 9 NEG3 (in), 10 POS3 (in), 11 V- (power), 12 POS4 (in), 13 NEG4 (in), 14 OUTD (out)

## Matrix led
designator Mat?
footprint matrix led
pins: 1 +1, 2 v, 3 r, 4 +2, 5 v, 6 r, 7 +3, 8 v, 9 r, 10 4+, 11 v, 12 r, 13 r, 14 v, 15 8+, 16 r, 17 v, 18 7+, 19 r, 20 v, 21 +6, 22 r, 23 v, 24 +5

## MAX3082
designator U?
footprint MAX3082
pins: 1 RO, 2 RE, 3 DE, 4 DI, 5 GND, 6 A, 7 B, 8 VCC

## MAX4427
designator U?
footprint SOIC8
pins: 1 NC, 2 INA, 3 GND, 4 INB, 5 OUTB, 6 VDD, 7 OUTA, 8 NC

## MAX7221
designator *
footprint DIP24
pins: 1 DIN, 2 DIG0, 3 DIG4, 4 GND, 5 DIG6, 6 DIG2, 7 DIG3, 8 DIG7, 9 GND, 10 DIG5, 11 DIG1, 12 LOAD(CS), 13 CLK, 14 SEGA, 15 SEGF, 16 SEGB, 17 SEGG, 18 ISET, 19 V+, 20 SEGC, 21 SEGE, 22 SEGDP, 23 SEGD, 24 DOUT

## MAX9919/NASA+
designator U?, comment Pic pequeño  (value not drawn)
footprint SOIC8_GND - duplicate
pins: 1 RS+, 2 RS-, 3 SHDN, 4 GND, 5 OUT, 6 FB, 7 REFIN, 8 VCC

## MC33063A
designator *
footprint MC33063A
pins: 1 SC, 2 SE, 3 TC, 4 GND, 5 CII, 6 Vcc, 7 I_Sensor, 8 DC

## MICROSWITCH4
designator *
footprint DIP8 (CI 8)
pins: 1, 2, 3, 4, 5, 6, 7, 8

## MMA7660
designator U?
ACCELEROMETERO LOW COST
footprint DFN10_MMA7660
pins: 1 GND, 2 NC, 3 VDD, 4 GND, 5 INT, 6 SCL, 7 SDA, 8 GND, 9 VDD, 10 NC

## MMA8652FC
designator U?
Acelerometro LOW COST
footprint MMA8652FCR
pins: 1 VDD, 2 SCL, 3 INT1, 4 BYP, 5 INT2, 6 GND, 7 GND, 8 VDDIO, 9 GND, 10 SDA

## MOSFET N
designator M?
MOSFET de canal N
footprint MOSFET TO-220
footprint SOT-223 - mosfet n (SOT-223/SC-73; 4 Leads; Body 6.7 x 7.3 mm, inc. leads (LxW max))
footprint MOSFET TO247
footprint D-Pak - MOSFET
footprint D2PAK - irls4030 (TO220-superficie)
footprint NTMS5835
footprint PSMN016-100YS_LFPAL SO8
pins: D, G, S

## MOSFET P
designator M?
MOSFET de canal P
footprint MOSFET TO-220
footprint SOT23 - MOSFET (Transistor SMD)
pins: D, G, S

## MOSFET_N_BSH108,215
designator M?
MOSFET de canal N
footprint SOT23 - MOSFET (Transistor SMD)
pins: D, G, S

## NCP81074B
designator Drv?  (value not drawn)
footprint NCP81074A (Driver)
pins: 1 IN+, 2 GND, 3 GND, 4 OUT_L, 5 OUT_H, 6 V+, 7 V+, 8 IN-

## NE555
designator U?
Temporizador
footprint DIP8
footprint SOIC8
pins: 1 GND, 2 TRIG, 3 OUT, 4 RESET, 5 CVOLT, 6 THOLD, 7 DISCH, 8 VCC

## NPN
designator Q?
Transistor NPN
footprint SOT23 - 3pates (Transistor SMD)
pins: B, C, E

## OPTO 4N26
designator U?
Optoacoplador tipo 4N26
footprint DIP6
pins: 1 A, 2 K, 4 E, 5 C, 6 B

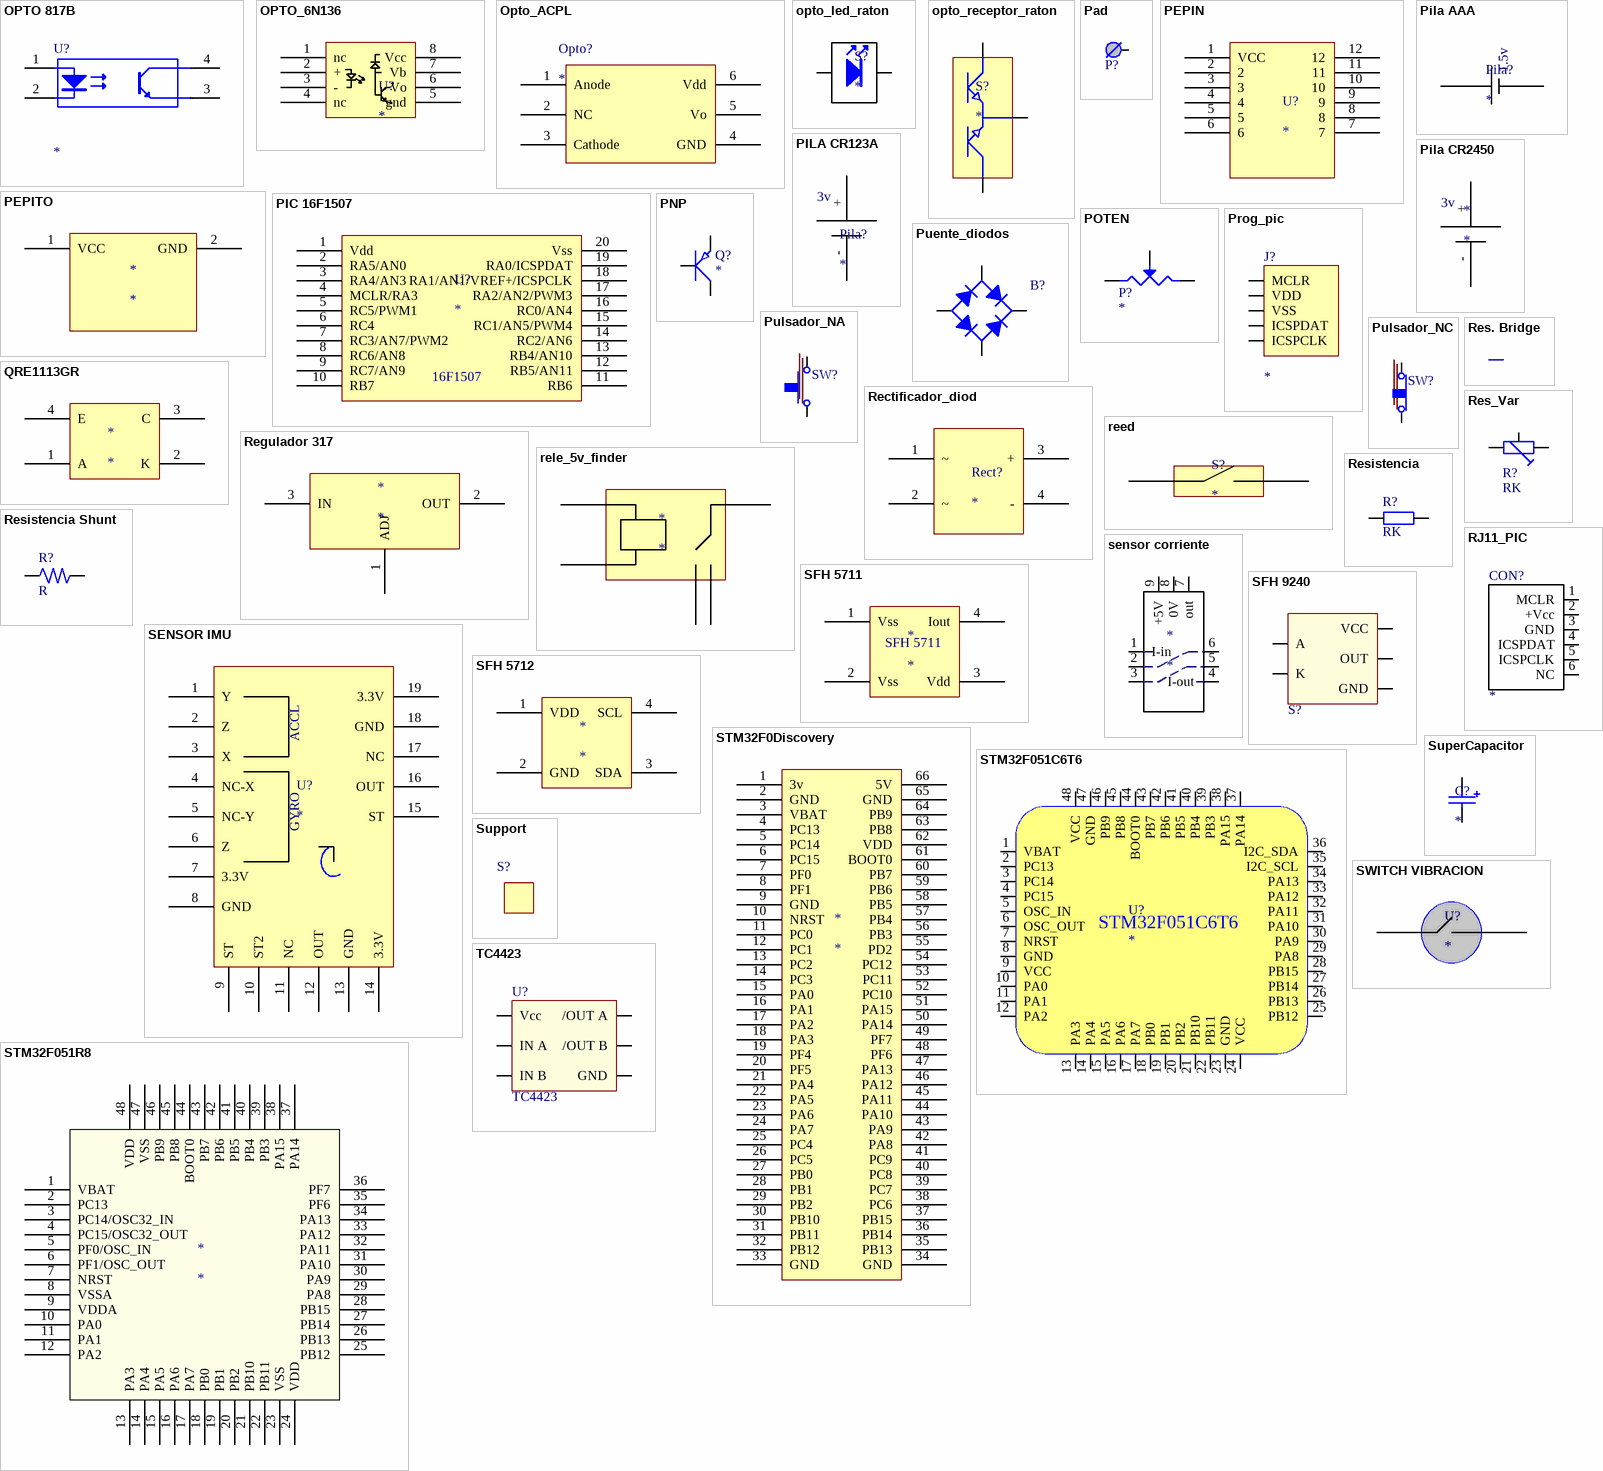
[diagram p4: symbols OPTO 817B to TC4423]

## OPTO 817B
designator U?
Optoacoplador tipo 817B
footprint OPTO 817B
pins: 1 A, 2 K, 3 E, 4 C

## OPTO_6N136
designator U?
footprint DIP8
pins: 1 nc, 2 +, 3 -, 4 nc, 5 gnd, 6 Vo, 7 Vb, 8 Vcc

## Opto_ACPL
designator Opto?
footprint SSOIC6 (Circuito de 6 patas SMD)
pins: 1 Anode, 2 NC, 3 Cathode, 4 GND, 5 Vo, 6 Vdd

## opto_led_raton
designator S?
footprint opto_led_raton
pins: A, K

## opto_receptor_raton
designator S?
footprint OPTO_RECEPTOR_RATON
pins: 1, 2, 3

## Pad
designator P?  (value not drawn)
footprint PAD (Simplemente un PAD)
footprint Conector_1
footprint PIN_BATERIA_40152
footprint TOP_PAD
pins: 1

## PEPIN
designator U?
footprint FOOTPRINT_PEPIN
pins: 1 VCC, 2, 3, 4, 5, 6, 7, 8, 9, 10, 11, 12

## PEPITO
designator *
footprint DIP_PEPITO
pins: 1 VCC, 2 GND

## PIC 16F1507
designator U?
footprint 16F1507
pins: 1 Vdd, 2 RA5/AN0, 3 RA4/AN3, 4 MCLR/RA3, 5 RC5/PWM1, 6 RC4, 7 RC3/AN7/PWM2, 8 RC6/AN8, 9 RC7/AN9, 10 RB7, 11 RB6, 12 RB5/AN11, 13 RB4/AN10, 14 RC2/AN6, 15 RC1/AN5/PWM4, 16 RC0/AN4, 17 RA2/AN2/PWM3, 18 RA1/AN1/VREF+/ICSPCLK, 19 RA0/ICSPDAT, 20 Vss
text: 16F1507

## Pila AAA
designator Pila?
footprint Pila AAA
pins: 1 +, 2 |
text: 1.5v

## PILA CR123A
designator Pila?
footprint CR123A
pins: +, -
text: 3v

## Pila CR2450
designator *
footprint Soporte_CR2450
pins: +, -
text: 3v

## PNP
designator Q?
Transistor PNP
footprint SOT23 - 3pates (Transistor SMD)
pins: B, C, E

## POTEN
designator P?
POTENCIOMETRO
footprint VR4
footprint VR5
footprint VR1
footprint POT_SMD
footprint VR_regulable_a_mano
footprint POT_SMD_MINI
pins: 1, 2, 3

## Prog_pic
designator J?
Prog_pic
footprint con_5_100milis
footprint CON5_smd_80milis
pins: 1 MCLR, 2 VDD, 3 VSS, 4 ICSPDAT, 5 ICSPCLK

## Puente_diodos
designator B?, comment Puente diodos  (value not drawn)
Puente de diodos
footprint Puente_1A
pins: 1 menos, 2 alterna, 3 alterna, 4 mas

## Pulsador_NA
designator SW?  (value not drawn)
Normalmente Abierto
footprint Pulsador_smd
footprint Pulsador insercion
pins: 1, 2

## Pulsador_NC
designator SW?  (value not drawn)
Normalmente Cerrado
pins: 1, 2

## QRE1113GR
designator *
footprint QRE1113_TALADRAR PLACA
pins: 1 A, 2 K, 3 C, 4 E

## Rectificador_diod
designator Rect?
footprint ENC-03
pins: 1 ~, 2 ~, 3 +, 4 -

## reed
designator S?
footprint reed smd
pins: 1, 2

## Regulador 317
designator *
footprint To220
pins: 1 ADJ, 2 OUT, 3 IN

## rele_5v_finder
designator *
footprint rele_finder
pins: 1, 2, 3, 4, 5

## Res. Bridge
designator R0-?  (value not drawn)
Resistencia Bridge
footprint 1206
pins: 1, 2

## Res_Var
designator R?, comment RK
Resistencia Variable
footprint res_vas_rectangular (Resistencia Variable Rectangular)
pins: 1, 2, 3

## Resistencia
designator R?, comment RK
Resistencia; Potencia: 1/4W
footprint Axial 0.4 (Resistencias inserción 1/4)
footprint Axial 0.6 (Resistencia 2W)
footprint 1206 (SMD R&C)
footprint SMD-2512
footprint AXIAL0.7
pins: 1, 2

## Resistencia Shunt
designator R?, comment R
footprint Shunt_smd_2W (Resistencia de muy bajo valor)
pins: 1, 2

## RJ11_PIC
designator CON?
footprint RJ11
pins: 1 MCLR, 2 +Vcc, 3 GND, 4 ICSPDAT, 5 ICSPCLK, 6 NC

## sensor corriente
designator *
footprint LTS6NP (LEM current sensor)
pins: 1 I-in, 2, 3, 4 I-out, 5, 6, 7 out, 8 0V, 9 +5V

## SENSOR IMU
designator U?
footprint SENSOR IMU
pins: 1 Y, 2 Z, 3 X, 4 NC-X, 5 NC-Y, 6 Z, 7 3.3V, 8 GND, 9 ST, 10 ST2, 11 NC, 12 OUT, 13 GND, 14 3.3V, 15 ST, 16 OUT, 17 NC, 18 GND, 19 3.3V
text: ACCL; GYRO

## SFH 5711
designator *
footprint sfh5711
pins: 1 Vss, 2 Vss, 3 Vdd, 4 Iout

## SFH 5712
designator *
footprint SFH 5712
pins: 1 VDD, 2 GND, 3 SDA, 4 SCL

## SFH 9240
designator S?  (value not drawn)
Sensor Reflectivo Digital SMD
footprint SOIC6 (Circuito de 6 patas SMD)
pins: 1 A, 2 OUT, 3 VCC, 5 GND, 6 K

## STM32F0Discovery
designator *
footprint Stm32f0Discovery
pins: 1 3v, 2 GND, 3 VBAT, 4 PC13, 5 PC14, 6 PC15, 7 PF0, 8 PF1, 9 GND, 10 NRST, 11 PC0, 12 PC1, 13 PC2, 14 PC3, 15 PA0, 16 PA1, 17 PA2, 18 PA3, 19 PF4, 20 PF5, 21 PA4, 22 PA5, 23 PA6, 24 PA7, 25 PC4, 26 PC5, 27 PB0, 28 PB1, 29 PB2, 30 PB10, 31 PB11, 32 PB12, 33 GND, 34 GND, 35 PB13, 36 PB14, 37 PB15, 38 PC6, 39 PC7, 40 PC8, 41 PC9, 42 PA8, 43 PA9, 44 PA10, 45 PA11, 46 PA12, 47 PA13, 48 PF6, 49 PF7, 50 PA14, 51 PA15, 52 PC10, 53 PC11, 54 PC12, 55 PD2, 56 PB3, 57 PB4, 58 PB5, 59 PB6, 60 PB7, 61 BOOT0, 62 VDD, 63 PB8, 64 PB9, 65 GND, 66 5V

## STM32F051C6T6
designator U?
footprint LQFP48_M (Thin QFP, 48-Leads, Body 7x7mm, Pitch 0.5mm, IPC Low Density)
pins: 1 VBAT, 2 PC13, 3 PC14, 4 PC15, 5 OSC_IN, 6 OSC_OUT, 7 NRST, 8 GND, 9 VCC, 10 PA0, 11 PA1, 12 PA2, 13 PA3, 14 PA4, 15 PA5, 16 PA6, 17 PA7, 18 PB0, 19 PB1, 20 PB2, 21 PB10, 22 PB11, 23 GND, 24 VCC, 25 PB12, 26 PB13, 27 PB14, 28 PB15, 29 PA8, 30 PA9, 31 PA10, 32 PA11, 33 PA12, 34 PA13, 35 I2C_SCL, 36 I2C_SDA, 37 PA14, 38 PA15, 39 PB3, 40 PB4, 41 PB5, 42 PB6, 43 PB7, 44 BOOT0, 45 PB8, 46 PB9, 47 GND, 48 VCC

## STM32F051R8
designator *
footprint LQFP48_7X7_STM32
pins: 1 VBAT, 2 PC13, 3 PC14/OSC32_IN, 4 PC15/OSC32_OUT, 5 PF0/OSC_IN, 6 PF1/OSC_OUT, 7 NRST, 8 VSSA, 9 VDDA, 10 PA0, 11 PA1, 12 PA2, 13 PA3, 14 PA4, 15 PA5, 16 PA6, 17 PA7, 18 PB0, 19 PB1, 20 PB2, 21 PB10, 22 PB11, 23 VSS, 24 VDD, 25 PB12, 26 PB13, 27 PB14, 28 PB15, 29 PA8, 30 PA9, 31 PA10, 32 PA11, 33 PA12, 34 PA13, 35 PF6, 36 PF7, 37 PA14, 38 PA15, 39 PB3, 40 PB4, 41 PB5, 42 PB6, 43 PB7, 44 BOOT0, 45 PB8, 46 PB9, 47 VSS, 48 VDD

## SuperCapacitor
designator C?
footprint Cellergy_12x12
pins: 1, 2

## Support
designator S?  (value not drawn)
footprint Support

## SWITCH VIBRACION
designator U?
footprint SWITCH VIBRADOR
pins: 1, 2

## TC4423
designator U?
Driver MOS 3A
footprint DIP8 (CI 8)
pins: 2 IN A, 3 GND, 4 IN B, 5 /OUT B, 6 Vcc, 7 /OUT A

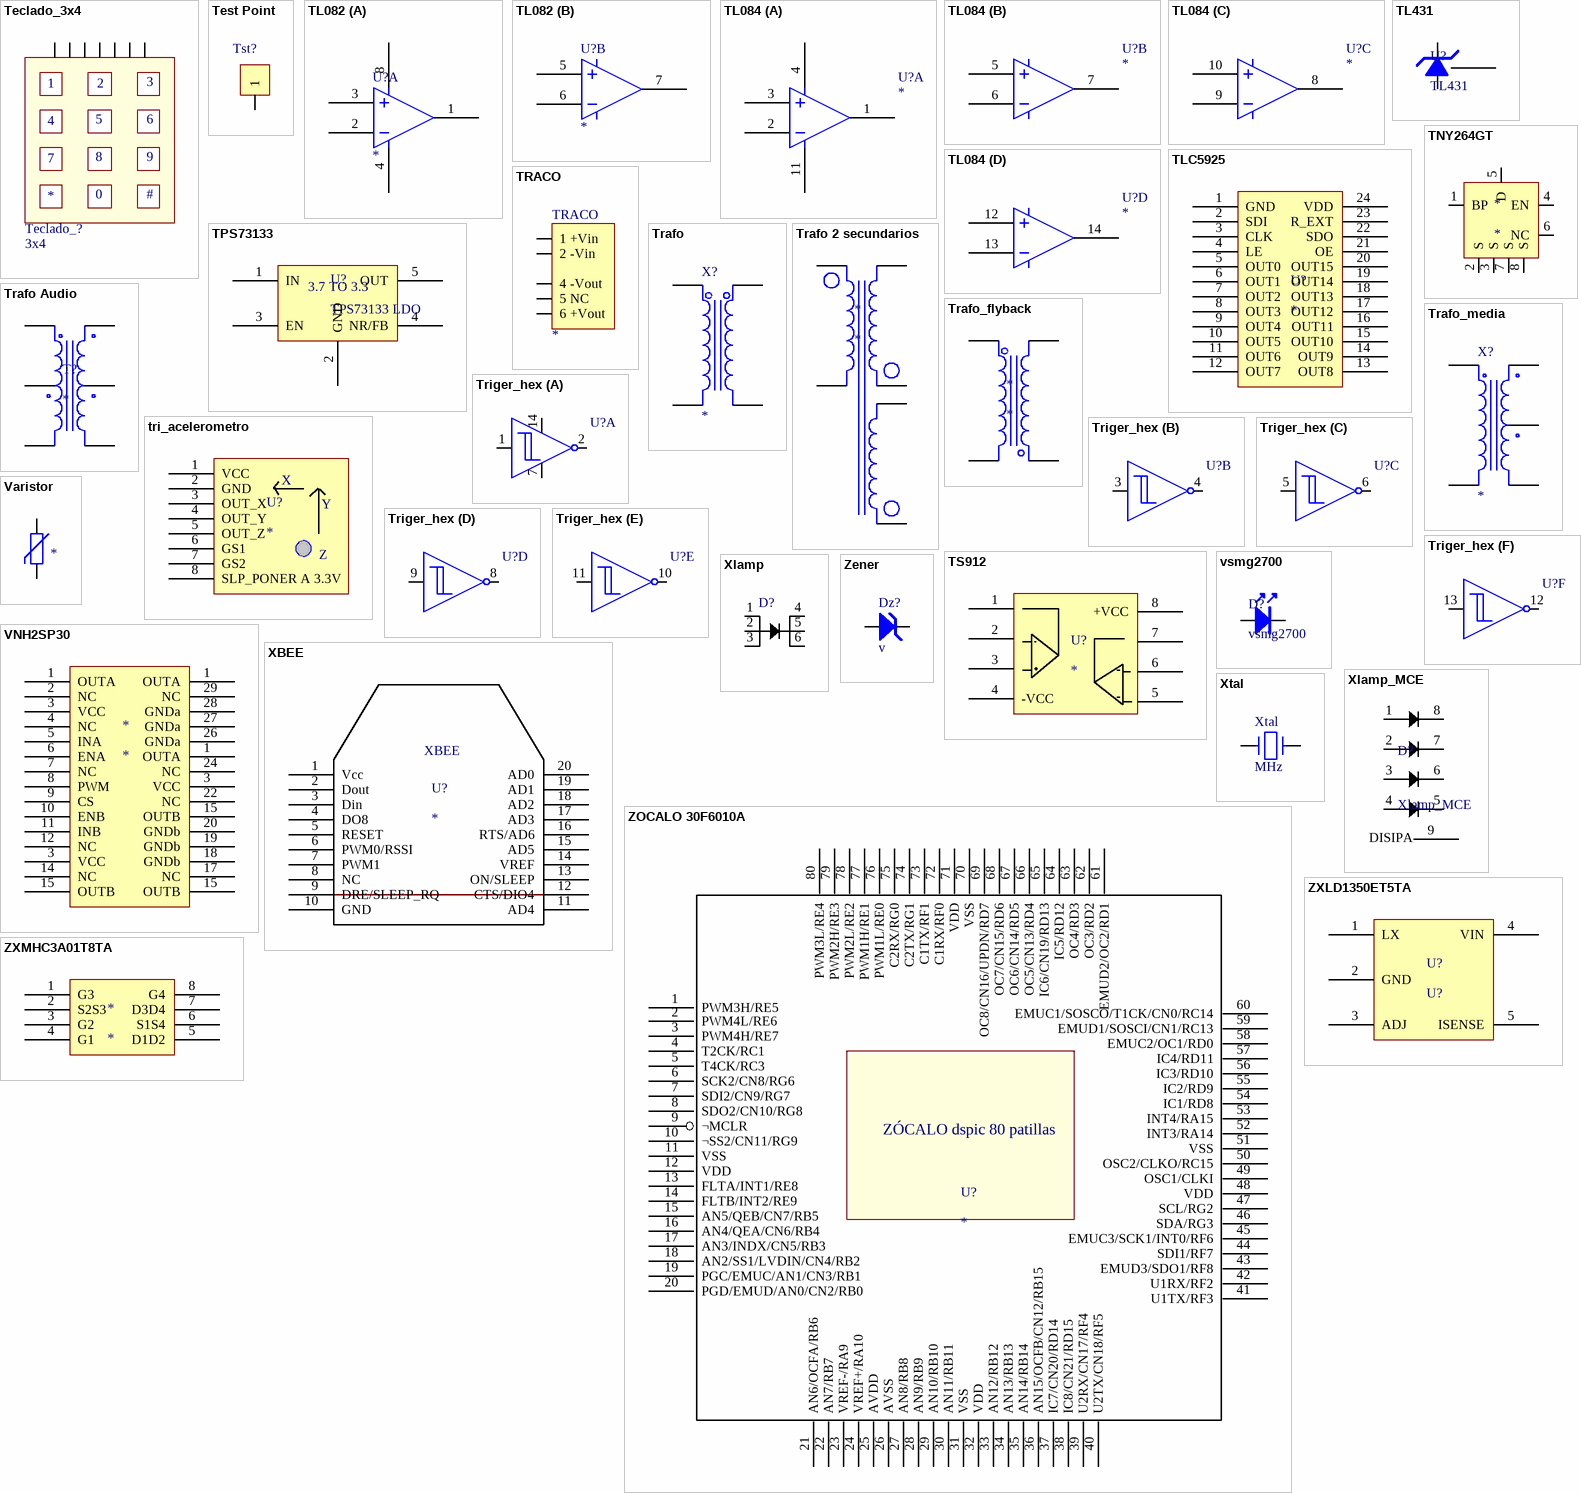
[diagram p5: symbols Teclado_3x4 to ZXMHC3A01T8TA]

## Teclado_3x4
designator Teclado_?, comment 3x4
footprint Teclado 3x4
pins: 1, 2, 3, 4, 5, 6, 7
text: 8; 9; 0; #

## Test Point
designator Tst?  (value not drawn)
footprint Con_1_Via
footprint Test_Point
pins: 1

## TL082
designator U?
AMPLIFICADOR OPERACIONAL
footprint DIP8
part A pins: 1, 2, 3, 4, 8
part B pins: 5, 6, 7

## TL084
designator U?
AMPLIFICADOR OPERACIONAL
footprint DIP8
part A pins: 1, 2, 3, 4, 11
part B pins: 5, 6, 7
part C pins: 8, 9, 10
part D pins: 12, 13, 14

## TL431
designator U?
REFERENCIA DE TENSION
footprint DIP8 (CI 8)
pins: 1 K, 6 A, 8 REF

## TLC5925
designator U?
footprint SOP24_TLC5925
pins: 1 GND, 2 SDI, 3 CLK, 4 LE, 5 OUT0, 6 OUT1, 7 OUT2, 8 OUT3, 9 OUT4, 10 OUT5, 11 OUT6, 12 OUT7, 13 OUT8, 14 OUT9, 15 OUT10, 16 OUT11, 17 OUT12, 18 OUT13, 19 OUT14, 20 OUT15, 21 OE, 22 SDO, 23 R_EXT, 24 VDD

## TNY264GT
designator *
pins: 1 BP, 2 S, 3 S, 4 EN, 5 D, 6 NC, 7 S, 8 S

## TPS73133
designator U?, comment TPS73133 LDO
regulador LDO 3.7 to 3.3
footprint SOT23 - 5 pates
pins: 1 IN, 2 GND, 3 EN, 4 NR/FB, 5 OUT
text: 3.7 TO 3.3

## TRACO
designator TRACO
TracoPower TMA1212S
footprint Clema_6_vias
footprint Clema_6_100milis
pins: 1 1 +Vin, 2 2 -Vin, 4 4 -Vout, 5 5 NC, 6 6 +Vout

## Trafo
designator X?
footprint TRAFO_E20
footprint Trafo_ETD44
footprint Trafo_E36
pins: 1, 2, 3, 4

## Trafo 2 secundarios
designator *
footprint Trafo_E36
pins: 1, 2, 3, 4, 5, 6

## Trafo Audio
designator T?
footprint 42TLXX
pins: 1, 2, 3, 4, 5, 6

## Trafo_flyback
designator *
pins: 1, 2, 3, 4

## Trafo_media
designator X?
Toma media
footprint BOBINA EDF30
pins: 1, 2, 3, 4, 5

## tri_acelerometro
designator U?
footprint tri_acelerometro
pins: 1 VCC, 2 GND, 3 OUT_X, 4 OUT_Y, 5 OUT_Z, 6 GS1, 7 GS2, 8 SLP_PONER A 3.3V
text: X; Y; Z

## Triger_hex
designator U?  (value not drawn)
footprint SOIC_14
part A pins: 1, 2, 7 GND, 14 Vcc
part B pins: 3, 4
part C pins: 5, 6
part D pins: 8, 9
part E pins: 10, 11
part F pins: 12, 13

## TS912
designator U?
Operacional Rail to Rail
footprint SOP8
footprint DIP8 (CI 8)
pins: 1, 2, 3, 4 -VCC, 5, 6, 7, 8 +VCC

## Varistor
designator Varistor
pins: 1, 2

## VNH2SP30
designator *
footprint vnh2sp30
pins: 1 OUTA, 1 OUTA, 1 OUTA, 2 NC, 3 VCC, 3 VCC, 3 VCC, 4 NC, 5 INA, 6 ENA, 7 NC, 8 PWM, 9 CS, 10 ENB, 11 INB, 12 NC, 14 NC, 15 OUTB, 15 OUTB, 15 OUTB, 17 NC, 18 GNDb, 19 GNDb, 20 GNDb, 22 NC, 24 NC, 26 GNDa, 27 GNDa, 28 GNDa, 29 NC

## vsmg2700
designator D?
footprint vsmg2700
pins: A, K

## XBEE
designator U?
footprint XBEE_PRO
footprint XBEE_NECESARIOS
pins: 1 Vcc, 2 Dout, 3 Din, 4 DO8, 5 RESET, 6 PWM0/RSSI, 7 PWM1, 8 NC, 9 DRE/SLEEP_RQ, 10 GND, 11 AD4, 12 CTS/DIO4, 13 ON/SLEEP, 14 VREF, 15 AD5, 16 RTS/AD6, 17 AD3, 18 AD2, 19 AD1, 20 AD0

## Xlamp
designator D?
footprint Xlamp
pins: 1 A1, 2 A2, 3 A3, 4 C1, 5 C2, 6 C2

## Xlamp_MCE
designator D?
footprint XLAMP_MCE
pins: 1 A, 2 A, 3 A, 4 A, 5 K, 6 K, 7 K, 8 K, 9 D
text: DISIPA

## Xtal
designator Xtal, comment MHz
Cristal de cuarzo
footprint Xtal (Cristal)
footprint XTAL-SMD
pins: 1, 2

## Zener
designator Dz?, comment v
footprint Diodo
footprint 1206 (SMD R&C)
footprint SM15T220A
pins: 1 A, 2 K

## ZOCALO 30F6010A
designator U?
footprint ZOCALO 30F6010A
pins: 1 PWM3H/RE5, 2 PWM4L/RE6, 3 PWM4H/RE7, 4 T2CK/RC1, 5 T4CK/RC3, 6 SCK2/CN8/RG6, 7 SDI2/CN9/RG7, 8 SDO2/CN10/RG8, 9 ¬MCLR, 10 ¬SS2/CN11/RG9, 11 VSS, 12 VDD, 13 FLTA/INT1/RE8, 14 FLTB/INT2/RE9, 15 AN5/QEB/CN7/RB5, 16 AN4/QEA/CN6/RB4, 17 AN3/INDX/CN5/RB3, 18 AN2/SS1/LVDIN/CN4/RB2, 19 PGC/EMUC/AN1/CN3/RB1, 20 PGD/EMUD/AN0/CN2/RB0, 21 AN6/OCFA/RB6, 22 AN7/RB7, 23 VREF-/RA9, 24 VREF+/RA10, 25 AVDD, 26 AVSS, 27 AN8/RB8, 28 AN9/RB9, 29 AN10/RB10, 30 AN11/RB11, 31 VSS, 32 VDD, 33 AN12/RB12, 34 AN13/RB13, 35 AN14/RB14, 36 AN15/OCFB/CN12/RB15, 37 IC7/CN20/RD14, 38 IC8/CN21/RD15, 39 U2RX/CN17/RF4, 40 U2TX/CN18/RF5, 41 U1TX/RF3, 42 U1RX/RF2, 43 EMUD3/SDO1/RF8, 44 SDI1/RF7, 45 EMUC3/SCK1/INT0/RF6, 46 SDA/RG3, 47 SCL/RG2, 48 VDD, 49 OSC1/CLKI, 50 OSC2/CLKO/RC15, 51 VSS, 52 INT3/RA14, 53 INT4/RA15, 54 IC1/RD8, 55 IC2/RD9, 56 IC3/RD10, 57 IC4/RD11, 58 EMUC2/OC1/RD0, 59 EMUD1/SOSCI/CN1/RC13, 60 EMUC1/SOSCO/T1CK/CN0/RC14, 61 EMUD2/OC2/RD1, 62 OC3/RD2, 63 OC4/RD3, 64 IC5/RD12, 65 IC6/CN19/RD13, 66 OC5/CN13/RD4, 67 OC6/CN14/RD5, 68 OC7/CN15/RD6, 69 OC8/CN16/UPDN/RD7, 70 VSS, 71 VDD, 72 C1RX/RF0, 73 C1TX/RF1, 74 C2TX/RG1, 75 C2RX/RG0, 76 PWM1L/RE0, 77 PWM1H/RE1, 78 PWM2L/RE2, 79 PWM2H/RE3, 80 PWM3L/RE4
text: ZÓCALO dspic 80 patillas

## ZXLD1350ET5TA
designator U?, comment U?
footprint ZXLD1350ET5TA
pins: 1 LX, 2 GND, 3 ADJ, 4 VIN, 5 ISENSE

## ZXMHC3A01T8TA
designator *
footprint ZXMHC3A01T8
pins: 1 G3, 2 S2S3, 3 G2, 4 G1, 5 D1D2, 6 S1S4, 7 D3D4, 8 G4